# Altium integrated library Analog Devices Data Converters Analog-to-Digital Converters.IntLib: 2400 symbols (part 90 of 338)
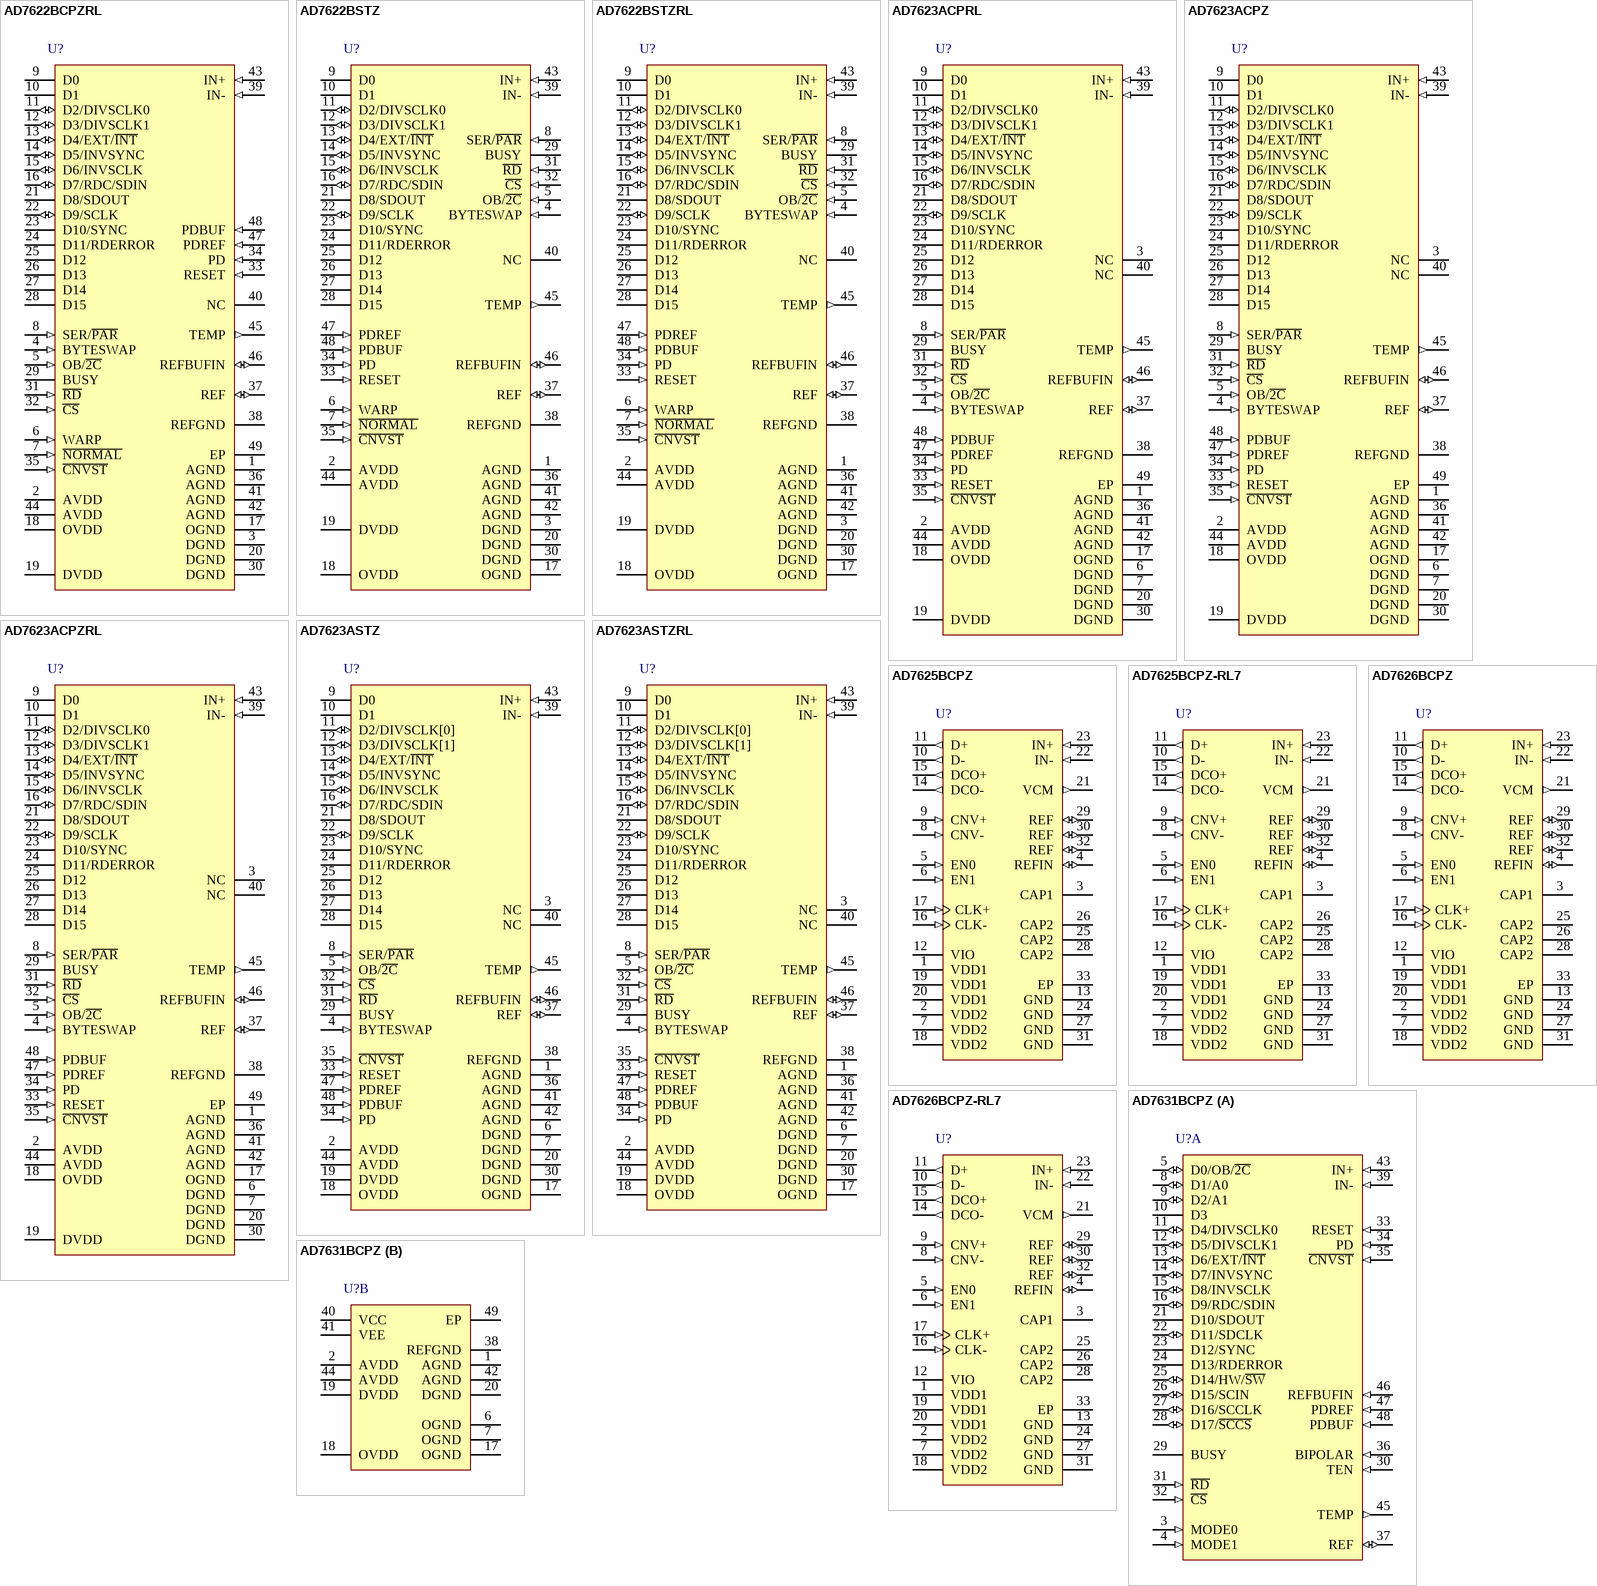
[diagram p307: symbols AD7622BCPZRL to AD7631BCPZ]

## AD7623ACPRL
designator U?
Single 16-Bit PulSAR Analog-to-Digital Converter with Byte, Parallel, Serial, SPI Interface, 1.33MSPS, -40 to +85 degC, CP-48-1, pb-Free, Reel; Part Number: AD7623; Manufacturer: Analog Devices; Resolution (Bits): 16; Channels: 1; Throughput Rate (SPS): 1.33M; Interface: Byte, Par, Ser, SPI; DatasheetVersion: Rev.0; PackageVersion: Jan-2005; PackageReference: CP-48-1; PackageDescription: 48-Lead Lead Frame Chip Scale Package [LFCSP_VQ] 7 x 7 mm Body, Very Thin Quad; RoHS: N; Packing: Reel; Mounting Technology: Surface Mount; Code_JEDEC: MO-220-VKKD-2; ComponentLink1Description: Manufacturer URL; ComponentLink1URL: http://www.analog.com/en/index.html; ComponentLink2Description: Datasheet; ComponentLink2URL: http://www.analog.com/static/imported-files/data_sheets/AD7623.pdf; ComponentLink3Description: Package Specification; ComponentLink3URL: http://www.analog.com/static/imported-files/packages/PKG_PDF/LFCSP(CP)/CP-48/CP_48_1.pdf; ComponentLink4Description: Product URL; ComponentLink4URL: http://www.analog.com/en/analog-to-digital-converters/ad-converters/ad7623/products/product.html
footprint CP-48-1_N (QFN, 48-Leads, Body 7x7mm, Pitch 0.5mm, Thermal Pad 5.1x5.1mm, IPC Medium Density)
footprint CP-48-1_L (QFN, 48-Leads, Body 7x7mm, Pitch 0.5mm, Thermal Pad 5.1x5.1mm, IPC High Density)
footprint CP-48-1_M (QFN, 48-Leads, Body 7x7mm, Pitch 0.5mm, Thermal Pad 5.1x5.1mm, IPC Low Density)
pins: 1 AGND (power) "Analog Power Ground Pin.", 2 AVDD (power) "Input Analog Power Pins. Nominally 2.5 V.", 3 NC "No Connect.", 4 BYTESWAP (in) "Parallel Mode Selection (8-Bit/16-Bit). When high, the LSB is output on D[15:8] and the MSB is output on D[7:0]; when low, the LSB is output on D[7:0] and the MSB is output on D[15:8].", 5 OB/~{2C} (in) "Straight Binary/Binary Twos Complement Output. When high, the digital output is straight binary; when low, the MSB is inverted resulting in a twos complement output from its internal shift register.", 6 DGND (power) "Digital Power Ground.", 7 DGND (power) "Digital Power Ground.", 8 SER/~{PAR} (in) "Serial/Parallel Selection Input. When high, the serial interface is selected and some bits of the data bus are used as a serial port; the remaining data bits are high impedance outputs. When SER/P\A\R\ = low, the parallel (See Datasheet)", 9 D0 (hiz) "Bit 0 of the Parallel Port Data Output Bus.", 10 D1 (hiz) "Bit 1 of the Parallel Port Data Output Bus.", 11 D2/DIVSCLK0 (io) "When SER/P\A\R\ = low, these outputs are used as Bit 2 and Bit 3 of the parallel port data output bus.When SER/P\A\R\ = high, serial clock division selection. When using serial master read after convert mode (EXT/I\N\T\ = (See Datasheet)", 12 D3/DIVSCLK1 (io) "When SER/P\A\R\ = low, these outputs are used as Bit 2 and Bit 3 of the parallel port data output bus.When SER/P\A\R\ = high, serial clock division selection. When using serial master read after convert mode (EXT/I\N\T\ = (See Datasheet)", 13 D4/EXT/~{INT} (io) "When SER/P\A\R\ = low, this output is used as Bit 4 of the parallel port data output bus.When SER/P\A\R\ = high, serial clock source select. This input is used to select the internally generated (master ) or external (slave) (See Datasheet)", 14 D5/INVSYNC (io) "When SER/P\A\R\ = low, this output is used as Bit 5 of the parallel port data output bus.When SER/P\A\R\ = high, invert sync select. In serial master mode (EXT/I\N\T\ = low), this input is used to select the active state of (See Datasheet)", 15 D6/INVSCLK (io) "When SER/P\A\R\ = low, this output is used as Bit 6 of the parallel port data output bus.Invert SCLK Select. In all serial modes, this input is used to invert the SCLK signal.", 16 D7/RDC/SDIN (io) "Bit 7 of the Parallel Port Data Output Bus.When SER/P\A\R\ = high, read during convert. When using serial master mode (EXT/INT = low), RDC is used to select the read mode.When RDC = high, the previous conversion result is (See Datasheet)", 17 OGND (power) "Input/Output Interface Digital Power Ground.", 18 OVDD (power) "Input/Output Interface Digital Power. Nominally at the same supply as the supply of the host interface (2.5 V or 3 V).", 19 DVDD (power) "Digital Power. Nominally at 2.5 V.", 20 DGND (power) "Digital Power Ground.", 21 D8/SDOUT (hiz) "When SER/P\A\R\ = low, this output is used as Bit 8 of the parallel port data output bus.When SER/P\A\R\ = high, serial data output. In serial mode, this pin is used as the serial data output synchronized to SCLK. Conversion (See Datasheet)", 22 D9/SCLK (io) "Parallel Port Data Output Bus Bit 9. When SER/P\A\R\ = low, this output is used as Bit 9 of the parallel port data output bus.Serial Clock. When SER/P\A\R\ = high, serial clock. In all serial modes, this pin is used as the (See Datasheet)", 23 D10/SYNC (hiz) "When SER/P\A\R\ = low, this output is used as Bit 10 of the parallel port data output bus.When SER/P\A\R\ = high, frame synchronization. In serial master mode (EXT/I\N\T\= low), this output is used as a digital output frame (See Datasheet)", 24 D11/RDERROR (hiz) "Parallel Port Data Output Bus Bit 11. When SER/P\A\R\ = low, this output is used as Bit 11 of the parallel port data output bus.Read Error. When SER/P\A\R\ = high, read error. In serial slave mode (EXT/I\N\T\ = high), this (See Datasheet)", 25 D12 (hiz) "Bit 12 of the Parallel Port Data Output Bus.", 26 D13 (hiz) "Bit 13 of the Parallel Port Data Output Bus.", 27 D14 (hiz) "Bit 14 of the Parallel Port Data Output Bus.", 28 D15 (hiz) "Bit 15 of the Parallel Port Data Output Bus.", 29 BUSY (hiz) "Busy Output. Transitions high when a conversion is started, and remains high until the conversion is complete and the data is latched into the on-chip shift register. The falling edge of BUSY can be used as a data ready (See Datasheet)", 30 DGND (power) "Digital Power Ground.", 31 ~{RD} (in) "Read Data. When C\S\ and R\D\ are both low, the interface parallel or serial output bus is enabled.", 32 ~{CS} (in) "Chip Select. When C\S\ and R\D\ are both low, the interface parallel or serial output bus is enabled.C\S\ is also used to gate the external clock in slave serial mode.", 33 RESET (in) "Reset Input. When high, reset the AD7623. Current conversion if any is aborted. Falling edge of RESET enables the calibration mode indicated by pulsing BUSY high. Refer to the Digital Interface section. If not used, this pin (See Datasheet)", 34 PD (in) "Power-Down Input. When high, power down the ADC. Power consumption is reduced and conversions are inhibited after the current one is completed.", 35 ~{CNVST} (in) "Conversion Start. A falling edge on C\N\V\S\T\ puts the internal sample-and-hold into the hold state and initiates a conversion.", 36 AGND (power) "Analog Power Ground Pin.", 37 REF (io) "Reference Output/Input. When PDREF/PDBUF = low, the internal reference and buffer are enabled, producing 2.048 V on this pin. When PDREF/PDBUF = high, the internal reference and buffer are disabled, allowing an externally (See Datasheet)", 38 REFGND (power) "Reference Input Analog Ground.", 39 IN- (in) "Differential Negative Analog Input.", 40 NC "No Connect.", 41 AGND (power) "Analog Power Ground Pin.", 42 AGND (power) "Analog Power Ground Pin.", 43 IN+ (in) "Differential Positive Analog Input.", 44 AVDD (power) "Input Analog Power Pins. Nominally 2.5 V.", 45 TEMP (out) "Temperature Sensor Analog Output.", 46 REFBUFIN (io) "Internal Reference Output/Reference Buffer Input. When PDREF/PDBUF = low, the internal reference and buffer are enabled, producing the 1.2 V (typical) band gap output on this pin, which needs external decoupling. The (See Datasheet)", 47 PDREF (in) "Internal Reference Power-Down Input. When low, the internal reference is enabled. When high, the internal reference is powered down, and an external reference must be used.", 48 PDBUF (in) "Internal Reference Buffer Power-Down Input. When low, the buffer is enabled (must be low when using internal reference). When high, the buffer is powered-down.", 49 EP (power) "Paddle connected to GND.This connection is not required to meet the electrical performances."